# EAGLE library part MARDUINO_ANALOG (library Arduino-shield-scaffolds)
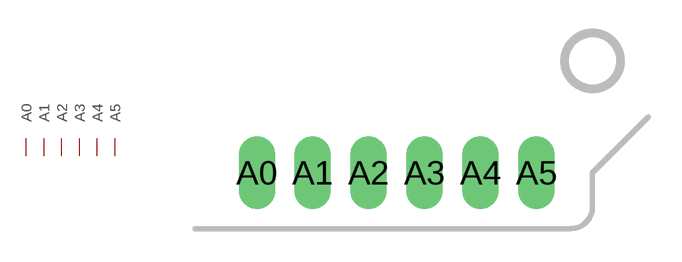
[diagram p3: symbol with the pads of MARDUINO_A0-5; footprint MARDUINO_A0-5]

Designator prefix -

## MARDUINO_ANALOG  [MARDUINO_A0-5]
A0  A0
A1  A1
A2  A2
A3  A3
A4  A4
A5  A5

## Footprint MARDUINO_A0-5 (pad centres in mm)
Arduino Modular Shield Scaffold Analog pins 0..5
drill 1.1 long: A0 50.8,2.54; A1 53.34,2.54; A2 55.88,2.54; A3 58.42,2.54; A4 60.96,2.54; A5 63.5,2.54